# Altium footprint library sika_UI.PcbLib: 17 footprints (part 1 of 2)
Each footprint in its own frame and in the unit in brackets; x right, y up, seen from the top. Pads: shape width x height; smd on the part's side, far side on the other; paste and mask are expansions set on the pad; w line width, h text height; cw(c..) or ccw(c..) is an arc to the next point about the centre after c.
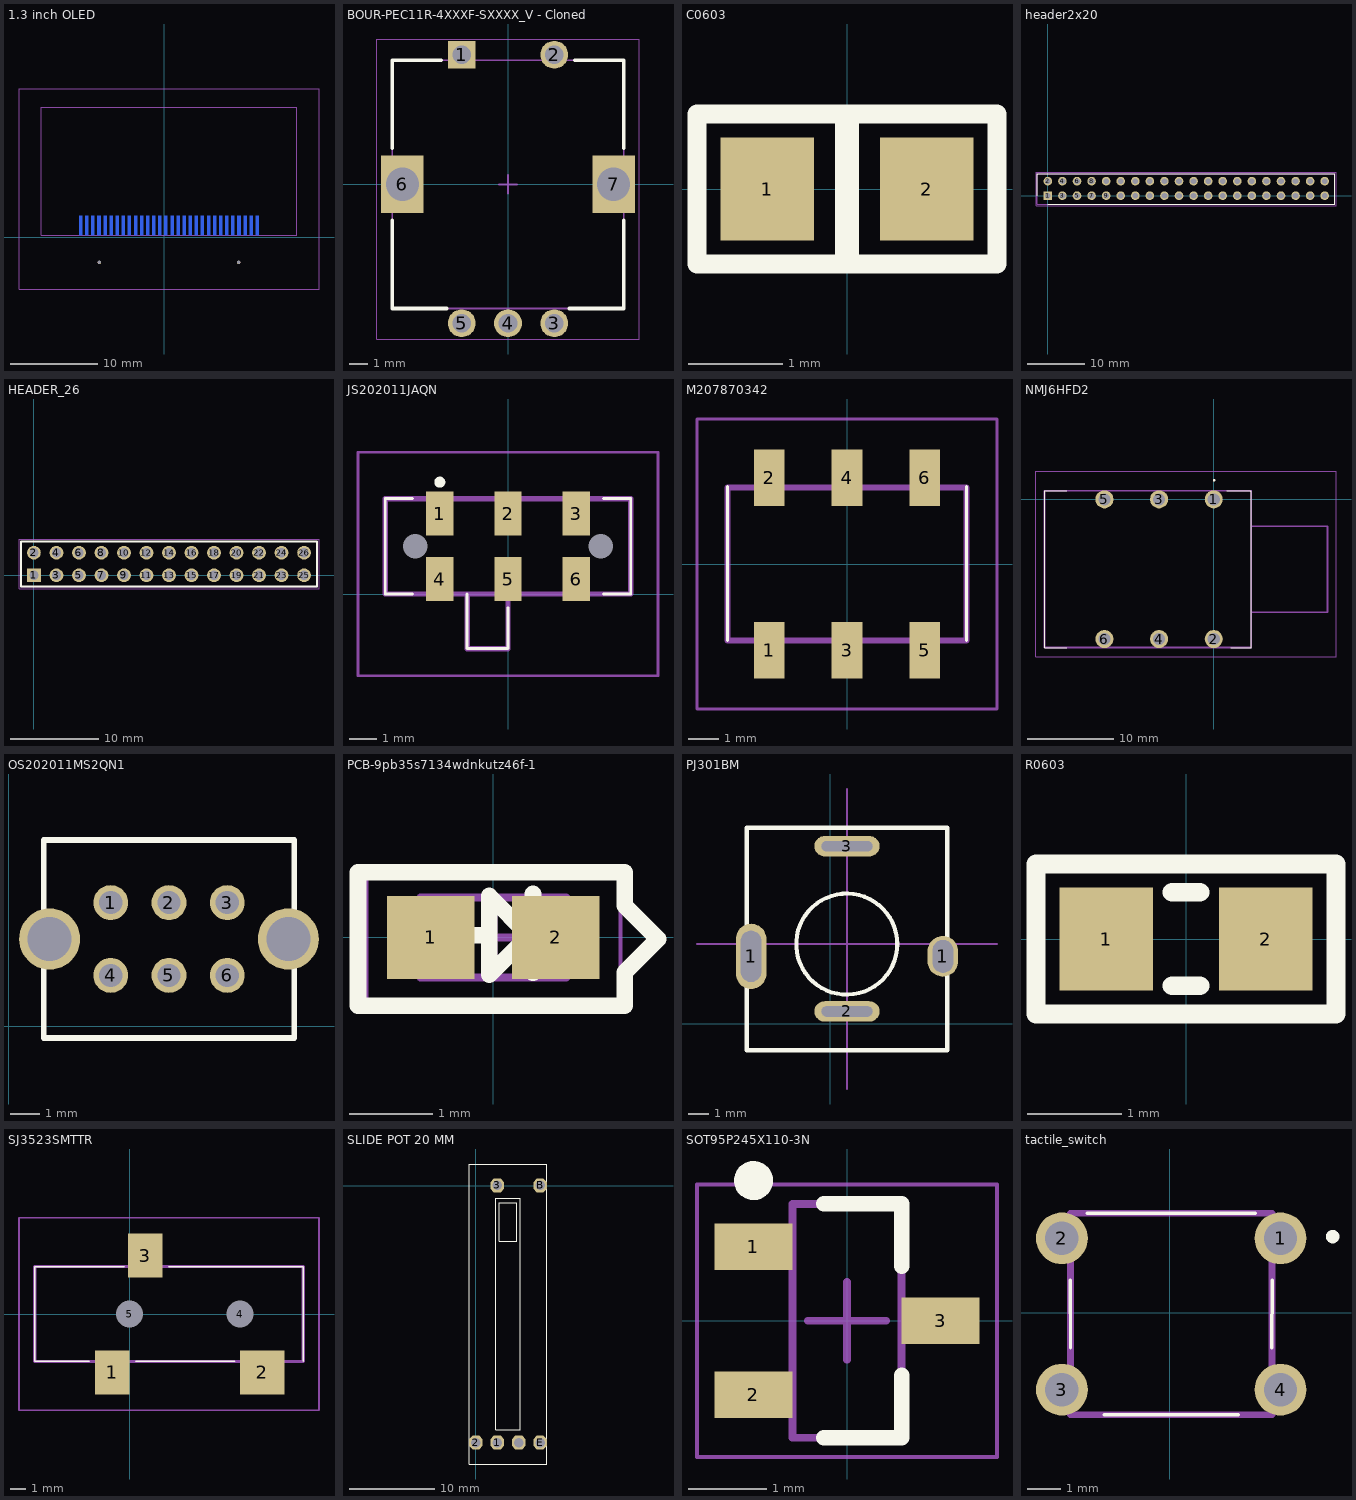
[diagram p0: the footprints below, top view; thin cyan lines are the x and y axes]

## 1.3 inch OLED [mm]
pads (32):
  rect 0.35x2.2 smd far side: 1(-9.607,1.359) 2(-8.907,1.359) 3(-8.207,1.359) 4(-7.507,1.359) 5(-6.807,1.359) 6(-6.107,1.359) 7(-5.407,1.359) 8(-4.707,1.359) 9(-4.007,1.359) 10(-3.307,1.359) 11(-2.607,1.359) 12(-1.907,1.359) 13(-1.207,1.359) 14(-0.507,1.359) 15(0.193,1.359) 16(0.893,1.359) 17(1.593,1.359) 18(2.293,1.359) 19(2.993,1.359) 20(3.693,1.359) 21(4.393,1.359) 22(5.093,1.359) 23(5.793,1.359) 24(6.493,1.359) 25(7.193,1.359) 26(7.893,1.359) 27(8.593,1.359) 28(9.293,1.359) 29(9.993,1.359) 30(10.693,1.359)
  round 0.4 hole 0.4 unplated: MH1(-7.457,-2.891) MH2(8.543,-2.891)
Mechanical 3:
  lines w0.127: -14.157,0.259 -14.157,14.959 15.243,14.959 15.243,0.259 -14.157,0.259
  text "PCB EDGE" at -2.057,-5.441 h1.26
Mechanical 4:
  text "30" at 10.993,2.971 h0.69
  text "20" at 3.843,2.971 h0.69
  text "10" at -3.107,2.971 h0.69
  text "1" at -9.407,3.071 h0.69
Bottom Assembly:
  lines w0.127: -16.707,-5.941 -16.707,17.059 17.793,17.059 17.793,-5.941 -16.707,-5.941
3D body: height 1.27, standoff 0, extent 8.339,-3.095 8.747,-2.687
3D body: height 1.27, standoff 0, extent -7.661,-3.095 -7.253,-2.687
3D body: height 1.27, standoff 0, extent 10.518,0.259 10.868,2.459
3D body: height 1.27, standoff 0, extent 9.818,0.259 10.168,2.459
3D body: height 1.27, standoff 0, extent 9.118,0.259 9.468,2.459
3D body: height 1.27, standoff 0, extent 8.418,0.259 8.768,2.459
3D body: height 1.27, standoff 0, extent 7.718,0.259 8.068,2.459
3D body: height 1.27, standoff 0, extent 7.018,0.259 7.368,2.459
3D body: height 1.27, standoff 0, extent 6.318,0.259 6.668,2.459
3D body: height 1.27, standoff 0, extent 5.618,0.259 5.968,2.459
3D body: height 1.27, standoff 0, extent 4.918,0.259 5.268,2.459
3D body: height 1.27, standoff 0, extent 4.218,0.259 4.568,2.459
3D body: height 1.27, standoff 0, extent 3.518,0.259 3.868,2.459
3D body: height 1.27, standoff 0, extent 2.818,0.259 3.168,2.459
3D body: height 1.27, standoff 0, extent 2.118,0.259 2.468,2.459
3D body: height 1.27, standoff 0, extent 1.418,0.259 1.768,2.459
3D body: height 1.27, standoff 0, extent 0.718,0.259 1.068,2.459
3D body: height 1.27, standoff 0, extent 0.018,0.259 0.368,2.459
3D body: height 1.27, standoff 0, extent -0.682,0.259 -0.332,2.459
3D body: height 1.27, standoff 0, extent -1.382,0.259 -1.032,2.459
3D body: height 1.27, standoff 0, extent -2.082,0.259 -1.732,2.459
3D body: height 1.27, standoff 0, extent -2.782,0.259 -2.432,2.459
3D body: height 1.27, standoff 0, extent -3.482,0.259 -3.132,2.459
3D body: height 1.27, standoff 0, extent -4.182,0.259 -3.832,2.459
3D body: height 1.27, standoff 0, extent -4.882,0.259 -4.532,2.459
3D body: height 1.27, standoff 0, extent -5.582,0.259 -5.232,2.459
3D body: height 1.27, standoff 0, extent -6.282,0.259 -5.932,2.459
3D body: height 1.27, standoff 0, extent -6.982,0.259 -6.632,2.459
3D body: height 1.27, standoff 0, extent -7.682,0.259 -7.332,2.459
3D body: height 1.27, standoff 0, extent -8.382,0.259 -8.032,2.459
3D body: height 1.27, standoff 0, extent -9.082,0.259 -8.732,2.459
3D body: height 1.27, standoff 0, extent -9.782,0.259 -9.432,2.459
3D body: height 3.81, standoff 0, extent -14.226,0.19 -14.088,15.028
3D body: height 3.81, standoff 0, extent -14.226,0.19 15.312,0.328
3D body: height 3.81, standoff 0, extent 15.174,0.19 15.312,15.028
3D body: height 3.81, standoff 0, extent -14.226,14.89 15.312,15.028

## BOUR-PEC11R-4XXXF-SXXXX_V - Cloned [mm] "THD, 5-Leads, Body 12.5x13.4mm"
height 22
pads (7):
  rect 1.5x1.5 hole 1: 1(-2.5,7)
  round 1.5 hole 1: 2(2.5,7) 3(2.5,-7.5) 4(0,-7.5) 5(-2.5,-7.5)
  rect 2.3x3.1 hole 1.8 square: 6(-5.7,0) 7(5.7,0)
Top Overlay:
  lines w0.2: -6.25,-1.95 -6.25,-6.7 -3.326,-6.7 ; -6.25,1.95 -6.25,6.7 -3.61,6.7 ; 3.326,-6.7 6.25,-6.7 6.25,-1.95 ; 3.61,6.7 6.25,6.7 6.25,1.95
Mechanical 13:
  lines w0.1: -6.25,-6.7 6.25,-6.7 6.25,6.7 -6.25,6.7 -6.25,-6.7
Mechanical 15:
  lines w0.05: -7.1,-8.35 7.1,-8.35 7.1,7.85 -7.1,7.85 -7.1,-8.35
  lines w0.1: -0.5,0 0.5,0 ; 0,-0.5 0,0.5
3D body "pec11r-4x15f-sxxxx.stp": height 21.61, standoff -3.59, extent -7,-7.7 7,7.2

## C0603 [mm]
height 9.27
pads (2):
  rect 1x1.1 smd: 1(-0.85,0) 2(0.85,0)
Top Overlay:
  lines w0.2: -1.6,-0.8 1.6,-0.8 1.6,0.8 -1.6,0.8 -1.6,-0.8
  lines w0.254: 0,-0.7 0,0.7
3D body "Ceramic CAP0603.stp": height 0.6, standoff 0, extent -0.801,-0.4 0.801,0.4

## header2x20 [mm]
pads (40):
  rect 1.5x1.5 / inner round 1.5 / far side rect 1.5x1.5 hole 1: 1(0,0)
  round 1.5 hole 1: 2(0,2.54) 3(2.54,0) 4(2.54,2.54) 5(5.08,0) 6(5.08,2.54) 7(7.62,0) 8(7.62,2.54) 9(10.16,0) 10(10.16,2.54) 11(12.7,0) 12(12.7,2.54) 13(15.24,0) 14(15.24,2.54) 15(17.78,0) 16(17.78,2.54) 17(20.32,0) 18(20.32,2.54) 19(22.86,0) 20(22.86,2.54) 21(25.4,0) 22(25.4,2.54) 23(27.94,0) 24(27.94,2.54) 25(30.48,0) 26(30.48,2.54) 27(33.02,0) 28(33.02,2.54) 29(35.56,0) 30(35.56,2.54) 31(38.1,0) 32(38.1,2.54) 33(40.64,0) 34(40.64,2.54) 35(43.18,0) 36(43.18,2.54) 37(45.72,0) 38(45.72,2.54) 39(48.26,0) 40(48.26,2.54)
Top Overlay:
  lines w0.2: -1.82,0 -1.82,3.81 49.98,3.81 49.98,-1.47 0,-1.47
Mechanical 15:
  lines w0.1: -1.82,-1.47 -1.82,3.81 49.98,3.81 49.98,-1.47 -1.82,-1.47
Mechanical 20:
  lines w0.05: -2.07,-1.72 -2.07,4.06 50.23,4.06 50.23,-1.72 -2.07,-1.72
3D body "m20-9982045_asm.stp": height 8.65, standoff -3.03, extent -1.3,-1.34 49.5,3.74

## HEADER_26 [mm] "Assembly .025\" [.64] SQ Post Terminal Strip, 2x13 Pins, Vertical, 2.54mm Pitch, Male"
height 5.41
pads (26):
  rect 1.55x1.55 hole 1.02: 1(0,0)
  round 1.55 hole 1.02: 2(0,2.54) 3(2.54,0) 4(2.54,2.54) 5(5.08,0) 6(5.08,2.54) 7(7.62,0) 8(7.62,2.54) 9(10.16,0) 10(10.16,2.54) 11(12.7,0) 12(12.7,2.54) 13(15.24,0) 14(15.24,2.54) 15(17.78,0) 16(17.78,2.54) 17(20.32,0) 18(20.32,2.54) 19(22.86,0) 20(22.86,2.54) 21(25.4,0) 22(25.4,2.54) 23(27.94,0) 24(27.94,2.54) 25(30.48,0) 26(30.48,2.54)
Top Overlay:
  lines w0.2: -1.46,-1.27 31.94,-1.27 31.94,3.81 -1.46,3.81 -1.46,-1.27
Mechanical 13:
  lines w0.1: -1.46,-1.27 31.94,-1.27 31.94,3.81 -1.46,3.81 -1.46,-1.27
Mechanical 15:
  lines w0.05: -1.685,-1.495 32.165,-1.495 32.165,4.035 -1.685,4.035 -1.685,-1.495
3D body "m20-9981345_asm.stp": height 8.65, standoff -3.03, extent -1.27,-1.3 31.75,3.78

## JS202011JAQN [mm]
height 9.27
pads (8):
  rect 1x1.6 smd: 1(-2.5,2.95) 2(0,2.95) 3(2.5,2.95) 4(-2.5,0.55) 5(0,0.55) 6(2.5,0.55)
  round 0.45 hole 0.9 unplated: MH1(-3.4,1.75) MH2(3.4,1.75)
Top Overlay:
  lines w0.1: -3.5,0 -4.5,0 -4.5,3.5 -3.5,3.5 ; -1.5,0 -1.5,-2 0,-2 0,-0.5 ; 3.5,0 4.5,0 4.5,3.5 3.5,3.5
  lines w0.2: -2.6,4.1 ccw(c-2.5,4.1) -2.4,4.1 ccw(c-2.5,4.1) -2.6,4.1
Mechanical 15:
  lines w0.2: -1.5,0 -1.5,-2 0,-2 0,0 ; -4.5,0 -4.5,3.5 4.5,3.5 4.5,0 -4.5,0
Mechanical 20:
  lines w0.1: -5.5,-3 -5.5,5.2 5.5,5.2 5.5,-3 -5.5,-3
3D body "JS202011JAQN.stp": height 3.61, standoff -0.69, extent -4.5,-2 4.5,3.55

## M207870342 [mm]
pads (6):
  rect 1x1.85 smd: 1(-2.54,-2.825) 2(-2.54,2.825) 3(0,-2.825) 4(0,2.825) 5(2.54,-2.825) 6(2.54,2.825)
Top Overlay:
  lines w0.1: -3.91,-2.5 -3.91,2.54 ; 3.91,-2.5 3.91,2.54
Mechanical 15:
  lines w0.2: -3.91,-2.5 3.91,-2.5 3.91,2.5 -3.91,2.5 -3.91,-2.5
Mechanical 20:
  lines w0.1: -4.91,-4.75 4.91,-4.75 4.91,4.75 -4.91,4.75 -4.91,-4.75
3D body "M20-7870342.stp": height 7.85, standoff -1.7, extent -3.91,-3.65 3.91,3.65

## NMJ6HFD2 [mm]
height 9.27
pads (6):
  round 2.1 hole 1.4: 1(0,0) 2(0,-16.23) 3(-6.35,0) 4(-6.35,-16.23) 5(-12.7,0) 6(-12.7,-16.23)
Top Overlay:
  lines w0.1: -19.65,-17.215 -19.65,0.985 ; -19.65,-17.215 -19.65,0.985 ; -19.65,-17.215 -17.05,-17.215 -19.65,-17.215 ; -19.65,0.985 -17.05,0.985 -19.65,0.985 ; 4.35,-17.215 4.35,0.985 4.35,-17.215 ; 4.35,-17.215 2,-17.215 4.35,-17.215 ; 1.5,1 4.35,1 1.5,1
  lines w0.2: 0,2.2 ccw(c0.05,2.2) 0.1,2.2 ; 0,2.2 cw(c0.05,2.2) 0.1,2.2 ; 0,2.2 ccw(c0.05,2.2) 0.1,2.2
Mechanical 15:
  lines w0.2: -19.65,-17.215 4.35,-17.215 4.35,0.985 -19.65,0.985 -19.65,-17.215 ; 4.35,-13.115 13.2,-13.115 13.2,-3.115 4.35,-3.115 4.35,-13.115
Mechanical 20:
  lines w0.1: -20.65,-18.28 14.2,-18.28 14.2,3.25 -20.65,3.25 -20.65,-18.28
3D body "3D+File+NMJ4HFD2.stp": height 15.71, standoff -3.99, extent -19.6,-17.15 13.25,1.05

## OS202011MS2QN1 [mm]
pads (8):
  round 1.2 hole 0.8: 1(3.5,4.25) 2(5.5,4.25) 3(7.5,4.25) 4(3.5,1.75) 5(5.5,1.75) 6(7.5,1.75)
  round 2.1 hole 1.5: ""(1.4,3) ""(9.6,3)
Top Overlay:
  lines w0.2: 1.2,-0.4 1.2,6.4 9.8,6.4 9.8,-0.4 1.2,-0.4
3D body: height 4, standoff 0, extent 1.2,-0.4 9.8,6.4
3D body: height 16, standoff 10.5, extent -0.6,6.25 -0.6,6.25
3D body: height 16, standoff 10.5, extent 5.9,9 5.9,9
3D body: height 8, standoff 0, extent 3.5,2 5.5,4

## PCB-9pb35s7134wdnkutz46f-1 [mm]
height 9.27
pads (2):
  rect 1.05x1 smd: 1(-0.75,0) 2(0.75,0)
Top Overlay:
  lines w0.2: -0.9,0.025 -0.1,0.025 ; 0.475,-0.425 0.475,0.525 ; 1.075,0.025 0.425,0.025 ; 0.425,0.025 -0.05,-0.45 -0.05,0.5 0.425,0.025 ; 0.425,0.025 0.425,0.025 ; 0.425,0.025 0.425,0.025 ; -1.625,-0.819 1.575,-0.819 1.575,-0.419 1.975,-0.019 1.575,0.381 1.575,0.781 -1.625,0.781 -1.625,-0.819
Mechanical 13:
  lines w0.1: -0.875,-0.48 0.875,-0.48 0.875,0.48 -0.875,0.48 -0.875,-0.48
Mechanical 15:
  lines w0.05: -1.524,-0.762 1.524,-0.762 1.524,0.762 -1.524,0.762 -1.524,-0.762
  lines w0.1: -0.48,0 0.48,0 ; 0,-0.48 0,0.48
3D body: height 0.6, standoff 0, extent -0.8,-0.4 0.8,0.4

## PJ301BM [mm]
pads (4):
  oval 1.5x3.2 hole 2.5 slot 1 at 0 deg: 1(-3.888,3.3)
  oval 1.5x2 hole 1.6 slot 1 at 0 deg: 1(5.513,3.3)
  oval 3.2x1 hole 0.5 slot 2.5 at 0 deg: 2(0.812,0.6) 3(0.812,8.7)
Top Overlay:
  circle w0.2: c0.8,3.9 r2.476
  lines w0.2: -4.1,-1.3 5.725,-1.3 5.725,9.6 -4.1,9.6 -4.1,-1.3
Mechanical 2:
  lines w0.1: -6.538,3.9 8.162,3.9 ; 0.812,-3.2 0.812,11.5
3D body: height 10.5, standoff 0, extent -4.1,-1.3 5.7,9.6
3D body: height 16, standoff 10.5, extent -2.2,0.9 3.8,6.9

## R0603 [mm]
height 9.27
pads (2):
  rect 1x1.1 smd: 1(-0.85,0) 2(0.85,0)
Top Overlay:
  lines w0.2: -0.15,-0.5 0.15,-0.5 ; -0.15,0.5 0.15,0.5 ; -1.6,-0.8 1.6,-0.8 1.6,0.8 -1.6,0.8 -1.6,-0.8
3D body "0603_RES.stp": height 0.44, standoff -0.02, extent -0.8,-0.4 0.8,0.4

## SJ3523SMTTR [mm]
height 9.27
pads (5):
  rect 2.2x2.8 smd: 1(-1.1,-3.7) 3(1,3.7)
  rect 2.8x2.8 smd: 2(8.4,-3.7)
  round 0.85 hole 1.7 unplated: 4(7,0) 5(0,0)
Top Overlay:
  lines w0.1: -2.564,-3 -6,-3 -6,3 -0.346,3 ; 0.384,-3 2.5,-3 6.674,-3 ; 2.5,3 11,3 11,-3
Mechanical 15:
  lines w0.2: -6,-3 11,-3 11,3 -6,3 -6,-3
Mechanical 20:
  lines w0.1: -7,-6.1 12,-6.1 12,6.1 -7,6.1 -7,-6.1
3D body "SJ-3523-SMT-TR.stp": height 5.11, standoff -0.69, extent -5.9,-4.5 11.1,4.5

## SLIDE POT 20 MM [mm]
pads (6):
  oct 1.598x1.598 / inner oct 1.524x1.524 / far side oct 1.598x1.598 hole 1.1: 1(2.484,-29.986) 2(-0.017,-29.986) 3(2.484,0.014) B(7.484,0.014) DUMMY(4.983,-29.986) E(7.484,-29.986)
Top Overlay:
  lines w0.127: -0.767,-32.486 8.234,-32.486 8.234,2.514 -0.767,2.514 -0.767,-32.486 ; 2.333,-28.486 5.134,-28.486 5.134,-1.486 3.233,-1.486 2.333,-1.486 2.333,-28.486 ; 2.734,-6.486 4.734,-6.486 4.734,-1.986 2.734,-1.986 2.734,-6.486
3D body: height 7, standoff 0, extent -0.762,-32.512 8.255,2.54
3D body: height 22, standoff 7, extent 2.731,-17.018 4.763,-10.922

## SOT95P245X110-3N [mm] "SOT23, 3-Leads, Body 2,90x2,45mm, Pitch 0,95mm, IPC Medium Density"
height 1.1
pads (3):
  rect 1x0.6 smd: 1(-1.2,0.95) 2(-1.2,-0.95) 3(1.2,0)
Top Overlay:
  circle w0.25: c-1.2,1.8 r0.125
  lines w0.2: -0.3,-1.5 0.7,-1.5 0.7,-0.7 ; -0.3,1.5 0.7,1.5 0.7,0.7
Mechanical 15:
  lines w0.05: -1.925,-1.75 1.925,-1.75 1.925,1.75 -1.925,1.75 -1.925,-1.75
  lines w0.1: -0.5,0 0.5,0 ; 0,-0.5 0,0.5
Top Assembly:
  lines w0.1: -0.7,-1.5 0.7,-1.5 0.7,1.5 -0.7,1.5 -0.7,-1.5
3D body: height 1.1, standoff 0.05, extent -0.7,-1.5 0.7,1.5

## tactile_switch [mm]
height 9.27
pads (4):
  round 1.54 hole 0.99: 1(3.293,2.219) 2(-3.207,2.219) 3(-3.207,-2.281) 4(3.293,-2.281)
Top Overlay:
  lines w0.1: -2.957,0.969 -2.952,-1.031 ; -2.457,2.964 2.543,2.969 ; -1.957,-3.031 2.043,-3.026 ; 3.038,-1.031 3.043,0.969
  lines w0.2: 4.843,2.169 ccw(c4.843,2.269) 4.843,2.369 ccw(c4.843,2.269) 4.843,2.169
Mechanical 15:
  lines w0.2: -2.952,-3.026 -2.952,2.964 3.038,2.964 3.038,-3.026 -2.952,-3.026
3D body "1825910-7.stp": height 7.01, standoff -3.5, extent -3.857,-2.995 3.943,2.995